# Altium schematic symbol library Mechanical.SchLib: 30 symbols
Pins are listed as number, name and electrical type; pins without a type are passive.

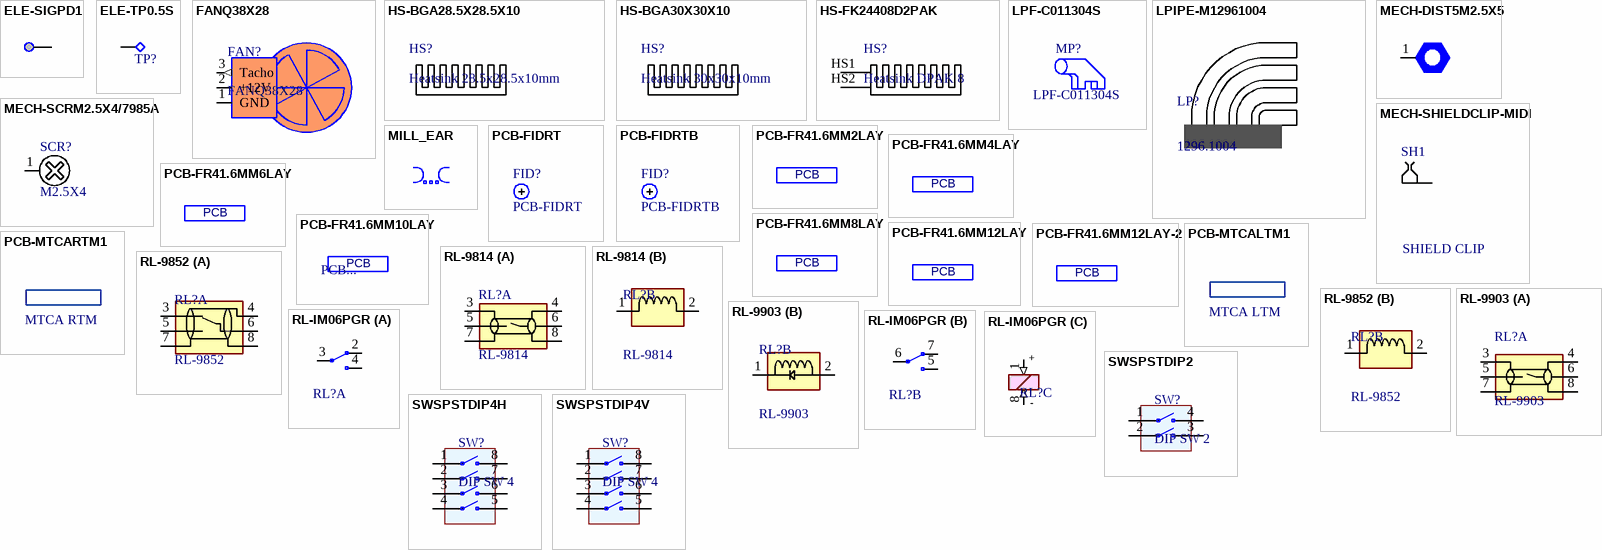
[diagram p0: symbols ELE-SIGPD1 to SWSPSTDIP4V]

## ELE-SIGPD1
designator SIGPD?  (value not drawn)  (no BOM)
Signal Pad; Sort: 800; Tech: MECH; Price: 0
footprint SIGPD1 (Signal Pad 0.8mm/2.0mm)
pins: MH1

## ELE-TP0.5S
designator TP?, comment TP 0.5mm  (value not drawn)  (no BOM)
Test Point 0.5mm Slim; Sort: 610; Tech: THDW; Price: 0
footprint TPH0.5S (Test point TH 0.5mm slim)
pins: 1

## FANQ38X28
designator FAN?
Fan 38x38x28mm 12V, 2.3W tacho; Manufacturer: Sunon; Manufacturer No: PMD1238PQB2-A; Tech: MECH; Package: FANQ38X28; Supplier 1: Digi-Key; Supplier Part Number 1: 259-1652-ND
footprint FANQ38X28VPCB (FAN 38x38x28mm vertical mounted on pcb)
pins: 1 GND (power), 2 +12V (power), 3 Tacho (out)

## HS-BGA28.5X28.5X10
designator HS?, comment Heatsink 28.5x28.5x10mm
Heatsink for BGA 27X27mm with plastic push pins; Manufacturer: Aavid Thermalloy; Manufacturer No: 10-6327-01; Tech: MECH; Package: Heatsink 28.5x28.5x10mm; Supplier 1: Mouser; Supplier Part Number 1: 532-10-6327-01
footprint HSBGA28.5X28.5X10 (Heatsink BGA 28.5x28.5x10mm with push pins)

## HS-BGA30X30X10
designator HS?, comment Heatsink 30x30x10mm
Heatsink for BGA 25X25mm with plastic push pins; Manufacturer: ATS; Manufacturer No: ATS-CPX025025010-165-C2-R0; Tech: MECH; Package: Heatsink 30x30x10mm; Supplier 1: Digi-Key; Supplier Part Number 1: ATS1515-ND
footprint HSBGA30X30X10 (Heatsink BGA 30x30x10mm with push pins)

## HS-FK24408D2PAK
designator HS?, comment Heatsink DPAK 8
Heatsink 144x19x12mm Al SMD for DPAK; Manufacturer: Fischer elektronik; Manufacturer No: FK244 08 D2 PAK; Tech: MECH; Package: HS SMD 26x8x10mm R17.8mm; Supplier 1: Newark; Supplier Part Number 1: 34M6221
footprint HS-FK24408D2PAK (Heatsink DPAK 26x8x10mm R17.8mm)
pins: HS1, HS2

## LPF-C011304S
designator MP?
Lightpipe single round right angle; Manufacturer: Lumex; Tech: THDH; Manufacturer No: LPF-C011304S; Package: LP 8,6x16H5,1; Supplier 1: Newark; Supplier Part Number 1: 77M0692; Supplier 2: Mouser; Supplier Part Number 2: 696-LPF-C011304S; Supplier 3: Digi-Key; Supplier Part Number 3: 67-1847-ND
footprint LP_LUMEX_LPF-C011304S

## LPIPE-M12961004
designator LP?, comment 1296.1004
Light Pipe 4x smd led right angle front plate; Manufacturer: Mentor; Tech: MECH; Manufacturer No: 1296.1004; Package: Lpipe 4xsmdV; Supplier 1: Newark; Supplier Part Number 1: 19J2970
footprint LPIPE-M12961004 (Light pipe 4x vertical)
pins: 1 hidden

## MECH-DIST5M2.5X5
designator DIST?, comment M2.5X5mm  (value not drawn)
Hex Standoff SW5mm M2.5x5mm brass nickeled; Sort: 800; Tech: MECH; Price: 0
footprint DIST5XM2.5NPL (Standoff SW5mm M2.5 nonplated hole)
footprint DIST5XM2.5PL (Standoff SW5mm M2.5 plated hole)
footprint DIST5XM2.5 (Standoff SW5mm M2.5 no hole)
pins: 1

## MECH-SCRM2.5X4/7985A
designator SCR?, comment M2.5X4
Screw M2.5x4mm  X Head; Comment2: DIN7985A; Sort: 800; Tech: MECH; Price: 0
footprint SCRM2.5 (M2.5mm DIN7985A no hole (head only) D2.7mm)
footprint SCRM2.5PL (M2.5mm DIN7985A non plated hole (head only) D2.7mm)
footprint SCRM2.5NPL (M2.5mm DIN7985A non plated hole (head only) D2.7mm)
pins: 1 hidden, 1

## MECH-SHIELDCLIP-MIDI
designator SH1, comment SHIELD CLIP
RFI Shield Clips; Manufacturer: Harwin; Manufacturer No: S1711-46R; Tech: THDM; Package: SH_CLIP; Supplier 1: Digi-Key; Supplier Part Number 1: 952-1475-1-ND; Supplier 2: Newark; Supplier Part Number 2: 48K7263; Supplier 3: Mouser; Supplier Part Number 3: 855-S1711-46
footprint SHILEDCLIP-MIDI (RFI Shield Clip 0.3 Shield Thickness)
pins: MH1 0

## MILL_EAR
designator ME  (no BOM)
Milling ear 2.0mm; Comment2: 2 x R2.0mm; Sort: 800; Tech: MECH; Price: 0
footprint MILLEAR2.0D (Milling ear for PCB cut dual side holes)

## PCB-FIDRT
designator FID?  (net tie)
Fiducial top round open mask; Sort: 800; Tech: MECH; Price: 0
footprint FIDRT50 (Fiducial TOP round 50mil)

## PCB-FIDRTB
designator FID?  (net tie)
Fiducial top & bottom round open mask; Sort: 800; Tech: MECH; Price: 0
footprint FIDRTB50 (Fiducial Top & Bottom round 50mil)

## PCB-FR41.6MM2LAY
designator PCB, comment PCB...  (value not drawn)
Printed Circuit Board 2 layer FR4 1.6mm 35um Cu; Tech: MECH
footprint LAYNUM2

## PCB-FR41.6MM4LAY
designator PCB, comment PCB...  (value not drawn)
Printed Circuit Board 4 layer FR4 1.6mm 35um Cu; Tech: MECH
footprint LAYNUM4

## PCB-FR41.6MM6LAY
designator PCB, comment PCB...  (value not drawn)
Printed Circuit Board 6 layer FR4 1.6mm 35um Cu; Tech: MECH
footprint LAYNUM6

## PCB-FR41.6MM8LAY
designator PCB, comment PCB...  (value not drawn)
Printed Circuit Board 8 layer FR4 1.6mm 35um Cu; Tech: MECH
footprint LAYNUM8 (PCB 1.6mm 8layer 2GND no POW)

## PCB-FR41.6MM10LAY
designator PCB, comment PCB...
Printed Circuit Board 10 layer FR4 1.6mm 35um Cu; Tech: MECH
footprint LAYNUM10-1 (PCB 1.6mm 10 layer SGSSPPSSGS)

## PCB-FR41.6MM12LAY
designator PCB, comment PCB...  (value not drawn)
Printed Circuit Board 12 layer FR4 1.6mm 35um Cu; Tech: MECH
footprint LAYNUM12 (PCB 1.6mm 12 layer 4GND 2 POW)

## PCB-FR41.6MM12LAY-2
designator PCB, comment PCB...  (value not drawn)
Printed Circuit Board 12 layer FR4 1.6mm 35um Cu; Tech: MECH
footprint LAYNUM12-2 (PCB 1.6mm 12 layer SGSGSPPSGSGS)

## PCB-MTCALTM1
designator ?, comment MTCA LTM  (no BOM)
PCB board outline for LTM module; Sort: 800; Tech: MECH; Price: 0
footprint PCBOL-AMCLTM1 (AMC LTM module outline)

## PCB-MTCARTM1
designator ?, comment MTCA RTM  (no BOM)
PCB board outline for RTM module; Sort: 800; Tech: MECH; Price: 0
footprint PCBOL-AMCRTM1 (AMC RTM module outline)

## RL-9814
designator RL?
Surface Mount Reed Relays Gull-Lead 3V3 (Form A); Manufacturer: Coto; Tech: SMDR; Manufacturer No: 9814-03-00; Package: RL; Supplier 1: Digi-Key; Supplier Part Number 1: 306-1156-5-ND; Supplier 2: Newark; Supplier Part Number 2: 29H2537; Supplier 3: Mouser; Supplier Part Number 3: 816-9814-03-00
footprint RL-9814 (Reed Relay 9814 series)
part A pins: 3, 4 OUT, 5, 6 IN, 7 3, 8 OUT
part B pins: 1 IN, 2 IN

## RL-9852
designator RL?
Surface Mount Reed Relays J-Lead 5V (Form C); Manufacturer: Coto; Tech: SMD; Manufacturer No: 9852-05-20; Package: RL; Supplier 1: Mouser; Supplier Part Number 1: 816-9852-05-20; Supplier 2: Digi-Key; Supplier Part Number 2: 306-1167-5-ND; Supplier 3: Newark; Supplier Part Number 3: 99K1346
footprint RL-9852J
part A pins: 3, 4 OUT, 5, 6 IN, 7 3, 8 OUT
part B pins: 1 IN, 2 IN

## RL-9903
designator RL?
Surface Mount Reed Relays J-Lead 5V; Manufacturer: Coto; Tech: SMD; Manufacturer No: 9903-05-20; Package: RL; Supplier 1: Newark; Supplier Part Number 1: 60M3627; Supplier 2: Digi-Key; Supplier Part Number 2: 306-1198-ND
footprint RL-9902J (RL9902  package with magnetic shield and j-leads for reed relay, SMD)
part A pins: 3, 4 OUT, 5, 6 IN, 7 3, 8 OUT
part B pins: 1 IN, 2 IN

## RL-IM06PGR
designator RL?, comment IM06PGR  (value not drawn)
Relay DPDT10x6x5.7mm SMD 12Vdc, 1.03kR 140mW 2A 250V; Manufacturer: TE Connectivity; Tech: SMDR; Manufacturer No: IM06PGR; Package: Relay 10x6x5.7mm SMD; Supplier 1: Mouser; Supplier Part Number 1: 655-5-1462039-6; Supplier 2: Newark; Supplier Part Number 2: 51R6678; Supplier 3: Digi-Key; Supplier Part Number 3: 5-1462039-6-ND
footprint RL-IM06PRG (Relay IM06PRG 10x6x5.7mm SMD)
part A pins: 2, 3, 4
part B pins: 5, 6, 7
part C pins: 1 (in), 8 2 (in)
part C text: +; -

## SWSPSTDIP2
designator SW?, comment DIP SW 2
Dip Switch PCB vertical (3.77x4.5x1.5)mm; Manufacturer: Multicomp; Manufacturer No: MCDHN-02F-T-V; Tech: THDW; Package: DIPSW2V; Supplier 1: Newark; Supplier Part Number 1: 11N5423
footprint DIPSW2V (Dip switch 2 position vertical R1.27mm SMD)
pins: 1, 2, 3, 4

## SWSPSTDIP4H
designator SW?, comment DIP SW 4
Dip Switch 4 PCB horizontal; Manufacturer: Multicomp; Manufacturer No: MCDA04; Tech: THDM; Package: DipSW4hor; Supplier 1: Newark; Supplier Part Number 1: 26M1090
footprint DIPSW4H (Dip switch 4 position horizontal R2.54mm)
pins: 1, 2, 3, 4, 5, 6, 7, 8

## SWSPSTDIP4V
designator SW?, comment DIP SW 4
Dip Switch 4 PCB vertical 2.54mm; Manufacturer: Omron; Manufacturer No: A6S-4101-H; Tech: THDM; Package: DipSW4ver; Supplier 1: Mouser; Supplier Part Number 1: 653-A6S-4101-H; Supplier 2: Newark; Supplier Part Number 2: 88M3595; Supplier 3: Digi-Key; Supplier Part Number 3: SW1120-ND
footprint DIPSW4V_SMD (Dip switch 4 position vertical R2.54mm SMD)
pins: 1, 2, 3, 4, 5, 6, 7, 8